# EAGLE library part MCP73833T-AMI/UN (library Battery Chargers)
Charger IC Lithium Ion/Polymer 10-MSOP Manufacturer's datasheet <https://ww1.microchip.com/downloads/en/DeviceDoc/22005b.pdf>
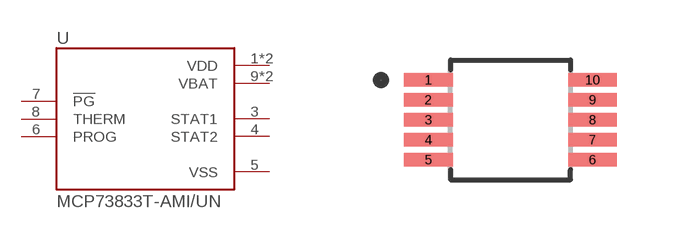
[diagram p6: symbol with the pads of MCP73833T-AMI/UN; footprint MCP73833T-AMI/UN]

Designator prefix U

## MCP73833T-AMI/UN (CREATED_BY: PCBLayout.com; DIGIKEY_PART_NUMBER: MCP73833T-AMI/UNCT-ND; MANUFACTURER: Microchip Technology; MPN: MCP73833T-AMI/UN; PACKAGE: 10-MSOP)  [MCP73833T-AMI/UN]
1  VDD  pwr
2  VDD  pwr
3  STAT1  out
4  STAT2  out
5  VSS  pwr
6  PROG  pas
7  !PG  in
8  THERM  in
9  VBAT  pwr
10  VBAT  pwr

## Footprint MCP73833T-AMI/UN (pad centres in mm)
smd 1.22 x 0.34: 1 -2.055,1; 2 -2.055,0.5; 3 -2.055,0; 4 -2.055,-0.5; 5 -2.055,-1; 6 2.055,-1; 7 2.055,-0.5; 8 2.055,0; 9 2.055,0.5; 10 2.055,1